# Altium schematic symbol library MOSFET.SchLib: 6 symbols
Pins are listed as number, name and electrical type; pins without a type are passive.

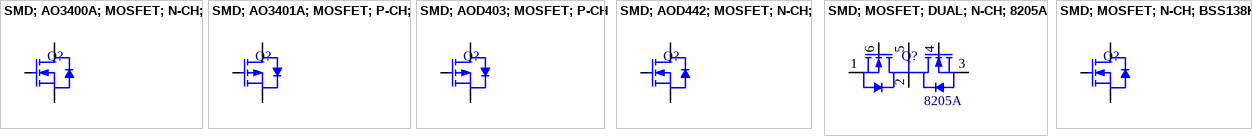
[diagram p0: symbols SMD; AO3400A; MOSFET; N-CH; to SMD; MOSFET; N-CH; BSS138K]

## SMD; AO3400A; MOSFET; N-CH;
designator Q?, comment N-Channel 30 V 5.7A (Ta) 1.4W (Ta) Surface Mount SOT-23-3  (value not drawn)
Trans MOSFET N-CH 30V 5.7A 3-Pin SOT-23; Manufacturer: Alpha & Omega Semiconductor; Manufacturer Part Number: AO3400A; Rds On Max: 26.5mR; Input Capacitance: 630pF; Drain to Source Resistance: 18mR; Number of Channels: 1; Threshold Voltage: 650mV; Turn-Off Delay Time: 25ns; Turn-On Delay Time: 3ns; Supplier: Digikey; Supplier Part Number: 785-1000-1-ND; RoHS: Yes; Category: MOSFETs; Stock: 457949; Pricing: 1=0.46, 10=0.282, 100=0.1787, 500=0.1337, 1000=0.11915 (USD); Mounting Technology: Surface Mount; Case/Package: TO-236-3; Min Operating Temperature: -55°C; Max Operating Temperature: 150°C; Packaging: Cut Tape; Drain to Source Voltage (Vdss): 30V; Continuous Drain Current (ID): 5.7A; Max Power Dissipation: 1.4W; Series: -; Drain to Source Breakdown Voltage: 30V; Height: 1.25mm; Lead Free: Lead Free; RoHS Compliant: Yes; ComponentLink1URL: https://datasheet.ciiva.com/940/ao3400a-940739.pdf?src-supplier=Digikey; ComponentLink1Description: https://datasheet.ciiva.com/940/ao3400a-940739.pdf?src-supplier=Digikey; ComponentLink2URL: https://datasheet.ciiva.com/26906/getdatasheetpartid-64438-26906526.pdf?src-supplier=Verical; ComponentLink2Description: https://datasheet.ciiva.com/26906/getdatasheetpartid-64438-26906526.pdf?src-supplier=Verical; ComponentLink3URL: https://datasheet.ciiva.com/940/ao3400a-940740.pdf?src-supplier=Digikey; ComponentLink3Description: https://datasheet.ciiva.com/940/ao3400a-940740.pdf?src-supplier=Digikey; ComponentLink4URL: https://datasheet.ciiva.com/940/ao3400a-940741.pdf?src-supplier=Digikey; ComponentLink4Description: https://datasheet.ciiva.com/940/ao3400a-940741.pdf?src-supplier=Digikey; Package: SOT23-3; Value: 5.7A
footprint SOT23-3-AOEI
pins: 1 G, 2 S, 3 D

## SMD; AO3401A; MOSFET; P-CH;
designator Q?, comment P-Channel 30 V 4A (Ta) 1.4W (Ta) Surface Mount SOT-23-3  (value not drawn)
Transistor: P-MOSFET; unipolar; -30V; 4, 2A; 1, 4W; 85 mOhm; ; -55+150 st.C; SMD; SOT23; Manufacturer: Alpha & Omega Semiconductor; Manufacturer Part Number: AO3401A; Rds On Max: 44mR; Input Capacitance: 1.2nF; Drain to Source Voltage (Vdss): 30V; Number of Elements: 1; Drain to Source Resistance: 41mR; Gate to Source Voltage (Vgs): 12V; Number of Channels: 1NUMBER; Threshold Voltage: -900mV; Turn-Off Delay Time: 41ns; Turn-On Delay Time: 6.5ns; Supplier: Digikey; Supplier Part Number: 785-1001-1-ND; RoHS: Yes; Category: MOSFETs; Stock: 544768; Pricing: 1=0.46, 10=0.282, 100=0.1787, 500=0.1337, 1000=0.11915 (USD); Mounting Technology: Surface Mount; Case/Package: TO-236-3; Pins: 3; Min Operating Temperature: -55°C; Max Operating Temperature: 150°C; Packaging: Cut Tape; Continuous Drain Current (ID): 4A; Max Power Dissipation: 1.4W; Power Dissipation: 1.4W; Series: -; Drain to Source Breakdown Voltage: -30V; Height: 1.25mm; Radiation Hardening: No; Lead Free: Lead Free; RoHS Compliant: Yes; ComponentLink1URL: https://datasheet.ciiva.com/940/ao3401a-940720.pdf?src-supplier=Digikey; ComponentLink1Description: https://datasheet.ciiva.com/940/ao3401a-940720.pdf?src-supplier=Digikey; ComponentLink2URL: https://datasheet.ciiva.com/26927/getdatasheetpartid-79048-26927888.pdf?src-supplier=Verical; ComponentLink2Description: https://datasheet.ciiva.com/26927/getdatasheetpartid-79048-26927888.pdf?src-supplier=Verical; Package: SOT23-3
footprint SOT23-3-AOEI
pins: 1 G, 2 S, 3 D

## SMD; AOD403; MOSFET; P-CH
designator Q?, comment P-Channel 30 V 15A (Ta), 70A (Tc) 2.5W (Ta), 90W (Tc) Surface Mount TO-252 (DPAK)  (value not drawn)
MOSFET P-CH 30V 15A TO252; Manufacturer: Alpha & Omega Semiconductor; Manufacturer Part Number: AOD403; Designer: TVBac; Supplier: Digikey; Supplier Part Number: 785-1101-1-ND; RoHS: Yes; Category: MOSFETs; Stock: 93018; Pricing: 1=1.2, 10=0.982, 100=0.7636, 500=0.6472, 1000=0.52722 (USD); ComponentLink1URL: https://datasheet.ciiva.com/29903/getdatasheetpartid-313226-29903835.pdf?src-supplier=Verical; ComponentLink1Description: https://datasheet.ciiva.com/29903/getdatasheetpartid-313226-29903835.pdf?src-supplier=Verical; ComponentLink2URL: https://datasheet.ciiva.com/6384/aod403-6384560.pdf?src-supplier=Digikey; ComponentLink2Description: https://datasheet.ciiva.com/6384/aod403-6384560.pdf?src-supplier=Digikey; ComponentLink3URL: https://datasheet.ciiva.com/6384/aod403-6384557.pdf?src-supplier=Digikey; ComponentLink3Description: https://datasheet.ciiva.com/6384/aod403-6384557.pdf?src-supplier=Digikey; ComponentLink4URL: https://datasheet.ciiva.com/6384/aod403-6384559.pdf?src-supplier=Digikey; ComponentLink4Description: https://datasheet.ciiva.com/6384/aod403-6384559.pdf?src-supplier=Digikey; ComponentLink5Description: Link Digikey; ComponentLink5URL: https://www.digikey.kr/en/products/detail/alpha-omega-semiconductor-inc/AOD403/1855873
footprint TO252
pins: 1 G, 2 S, 3 D

## SMD; AOD442; MOSFET; N-CH;
designator Q?, comment N-Channel 60 V 7A (Ta), 37A (Tc) 2.1W (Ta), 60W (Tc) Surface Mount TO-252 (DPAK)  (value not drawn)
Trans MOSFET N-CH 60V 37A 3-Pin(2+Tab) DPAK; Manufacturer: Alpha & Omega Semiconductor; Manufacturer Part Number: AOD442; Designer: TVBac; Supplier: Digikey; Supplier Part Number: 785-1107-1-ND; RoHS: Yes; Category: MOSFETs; Stock: 335544; Pricing: 1=0.52, 10=0.448, 100=0.3099, 500=0.25896, 1000=0.2425 (USD); ComponentLink1URL: https://datasheet.ciiva.com/6384/aod442-6384657.pdf?src-supplier=Digikey; ComponentLink1Description: https://datasheet.ciiva.com/6384/aod442-6384657.pdf?src-supplier=Digikey; ComponentLink2URL: https://datasheet.ciiva.com/6384/aod442-6384654.pdf?src-supplier=Digikey; ComponentLink2Description: https://datasheet.ciiva.com/6384/aod442-6384654.pdf?src-supplier=Digikey; ComponentLink3URL: https://datasheet.ciiva.com/6384/aod442-6384651.pdf?src-supplier=Digikey; ComponentLink3Description: https://datasheet.ciiva.com/6384/aod442-6384651.pdf?src-supplier=Digikey; ComponentLink4Description: Link Digikey; ComponentLink4URL: https://www.digikey.kr/en/products/detail/alpha-omega-semiconductor-inc/AOD442/1855879
footprint TO252
pins: 1 G, 2 S, 3 D

## SMD; MOSFET; DUAL; N-CH; 8205A
designator Q?, comment Manufacturer Part Number: 8205A  (hidden comment: Mosfet Array 20V 5A 830mW (Ta) Surface Mount SOT-23-6)
20V 5A 27m¦¸@4.5V, 5A 830mW 1.2V@250¦ÌA 2 N-Channel SOT-23-6 MOSFETs ROHS; Manufacturer: UMW(Youtai Semiconductor); Supplier: Digikey; Supplier Part Number: 4518-8205ACT-ND; RoHS: No; Category: MOSFETs; Stock: 2358; Pricing: 1=0.37, 10=0.228, 100=0.143, 500=0.10622, 1000=0.09431 (USD)
footprint SOT23-6-FS8205
pins: 1 S1, 2 D1/D2, 3 S2, 4 G2, 5 D1/D2, 6 G1

## SMD; MOSFET; N-CH; BSS138K
designator Q?, comment N-Channel 50 V 220mA (Ta) 350mW (Ta) Surface Mount SOT-23-3  (value not drawn)
N-Channel MOSFET, Logic Level Enhancement Mode, 50V 0.22A, 1.6Ω; Manufacturer: ON Semiconductor / Fairchild; Manufacturer Part Number: BSS138K; Supplier: Arrow Electronics; Supplier Part Number: BSS138K; RoHS: Yes; Category: MOSFETs; Stock: 4507; Pricing: 1=0.2619, 10=0.1508, 25=0.0784, 100=0.055, 250=0.0545, 500=0.0539, 1000=0.0534, 3000=0.0416 (USD); ComponentLink1URL: https://datasheet.ciiva.com/16965/bss138k-16965154.pdf?src-supplier=Future+Electronics; ComponentLink1Description: https://datasheet.ciiva.com/16965/bss138k-16965154.pdf?src-supplier=Future+Electronics; ComponentLink2URL: https://datasheet.ciiva.com/931/bss138k-931783.pdf?src-supplier=Digikey; ComponentLink2Description: https://datasheet.ciiva.com/931/bss138k-931783.pdf?src-supplier=Digikey; ComponentLink3URL: https://datasheet.ciiva.com/931/bss138k-931784.pdf?src-supplier=Digikey; ComponentLink3Description: https://datasheet.ciiva.com/931/bss138k-931784.pdf?src-supplier=Digikey; ComponentLink4URL: https://datasheet.ciiva.com/931/bss138k-931785.pdf?src-supplier=Digikey; ComponentLink4Description: https://datasheet.ciiva.com/931/bss138k-931785.pdf?src-supplier=Digikey; ComponentLink5URL: https://datasheet.ciiva.com/8115/bss138k-8115354.pdf?src-supplier=Avnet; ComponentLink5Description: https://datasheet.ciiva.com/8115/bss138k-8115354.pdf?src-supplier=Avnet
footprint SOT23-3-ONSEMi
pins: 1 G, 2 S, 3 D